# Altium footprint library Relay_THT.PcbLib: 117 footprints (part 5 of 8)
Each footprint in its own frame and in the unit in brackets; x right, y up, seen from the top. Pads: shape width x height; smd on the part's side, far side on the other; paste and mask are expansions set on the pad; w line width, h text height; cw(c..) or ccw(c..) is an arc to the next point about the centre after c.
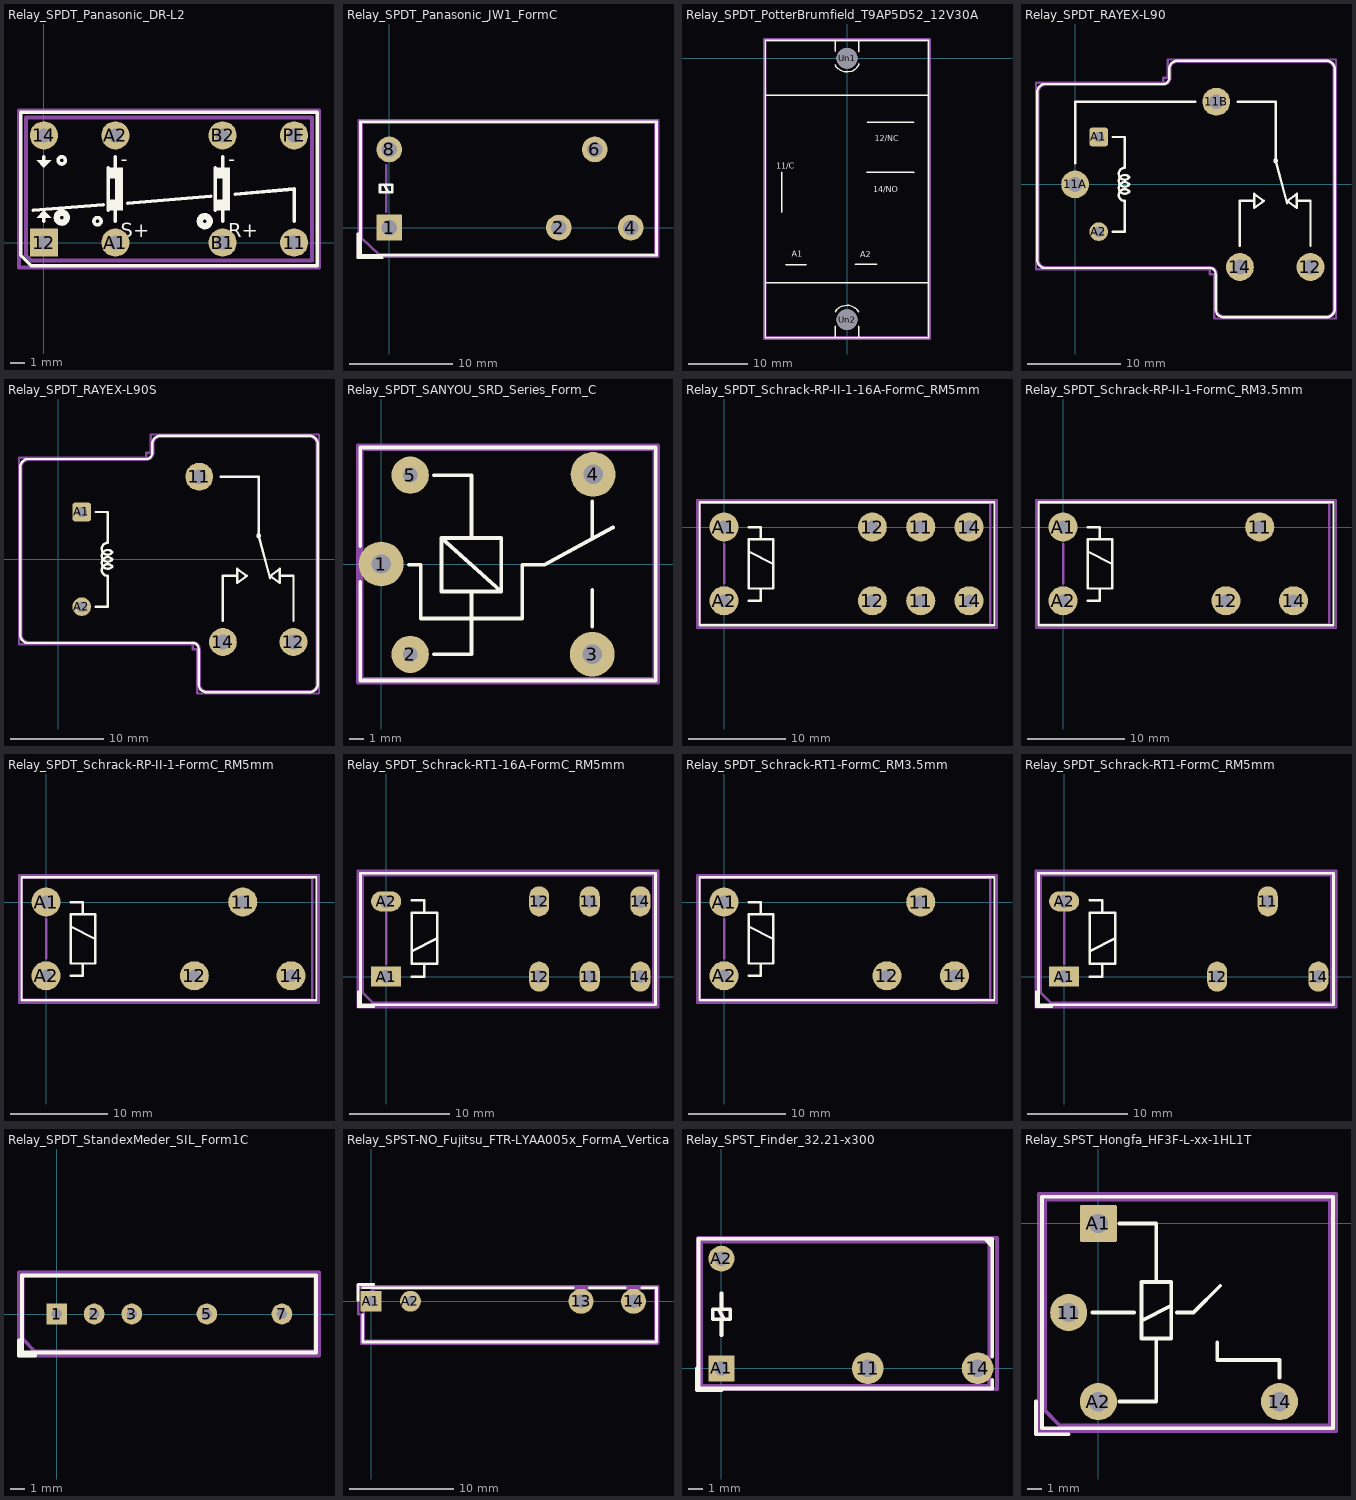
[diagram p4: the footprints below, top view; thin cyan lines are the x and y axes]

## Relay_SPDT_Panasonic_DR-L2 [mm]
pads (8):
  round 2 hole 1: 11(17.78,0) 14(0,7.62) A1(5.08,0) A2(5.08,7.62) B1(12.7,0) B2(12.7,7.62) PE(17.78,7.62)
  rect 2x2 hole 1: 12(0,0)
F.SilkS:
  circle w0.254: c11.43,1.524 r0.454
  circle w0.254: c11.43,1.524 r0.254
  circle w0.254: c3.81,1.524 r0.254
  circle w0.254: c1.27,1.778 r0.454
  circle w0.254: c1.27,1.778 r0.254
  circle w0.254: c1.27,5.842 r0.254
  region: 13.21,2.286 12.192,2.286 12.192,3.048 12.7,3.048 12.7,4.572 12.192,4.572 12.192,5.334 13.209,5.334
  region: 5.59,2.286 4.572,2.286 4.572,3.048 5.08,3.048 5.08,4.572 4.572,4.572 4.572,5.334 5.589,5.334
  region: 0.508,1.778 -0.508,1.778 0,2.286
  region: 0,5.334 -0.508,5.842 0.508,5.842
  lines w0.254: -0.762,2.286 4.216,2.692 ; 0,1.524 0,1.778 ; 0,5.842 0,6.096 ; 4.572,2.286 4.572,5.334 ; 5.08,1.524 5.08,2.286 ; 5.08,5.334 5.08,6.096 ; 5.944,2.794 11.862,3.302 ; 12.19,2.286 12.19,5.334 ; 12.698,1.524 12.698,2.286 ; 12.698,5.334 12.698,6.096 ; 13.589,3.429 17.78,3.81 17.78,1.524 ; -1.651,-0.89 -0.89,-1.651 19.431,-1.651 19.431,9.271 -1.651,9.271 -1.651,-0.89
  text "-" at 5.468,5.468 h1
  text "R+" at 13.088,0.396 h1
  text "S+" at 5.468,0.396 h1
  text "-" at 13.088,5.468 h1
F.Fab:
  lines w0.254: -1.27,-0.89 -0.89,-1.27 19.05,-1.27 19.05,8.89 -1.27,8.89 -1.27,-0.89
  text "'.Designator'" at 5.478,2.652 h1
F.CrtYd:
  lines w0.254: -1.77,-1.77 19.55,-1.77 19.55,9.39 -1.77,9.39 -1.77,-1.77

## Relay_SPDT_Panasonic_JW1_FormC [mm]
pads (5):
  rect 2.5x2.5 hole 1.5: 1(0,0)
  rrect100% 2.5x2.5 hole 1.5: 2(16.5,0) 4(23.5,0) 6(20,7.6) 8(0,7.6)
F.SilkS:
  lines w0.254: -3.04,-0.6 -3.04,-2.94 -0.7,-2.94 ; -0.5,4.15 -0.1,3.45 ; -2.8,-2.7 -2.8,10.3 26,10.3 26,-2.7 -2.8,-2.7 ; -0.9,3.45 -0.9,4.15 0.3,4.15 0.3,3.45 -0.9,3.45
F.Fab:
  lines w0.254: -3.04,-0.6 -3.04,-2.94 -0.7,-2.94 ; -0.3,1.55 -0.3,6.05 ; -2.7,-1 -2.7,10.2 25.9,10.2 25.9,-2.6 -1,-2.6 -2.7,-1
  text "'.Designator'" at 7.553,2.96 h1
F.CrtYd:
  lines w0.254: -2.95,-2.85 -2.95,10.45 26.15,10.45 26.15,-2.85 -2.95,-2.85
3D body "Relay_SPDT_Panasonic_JW1_FormC.step": height 20, standoff -3.1, extent -2.7,-2.6 25.9,10.2

## Relay_SPDT_PotterBrumfield_T9AP5D52_12V30A [mm]
pads (2):
  round 3.5 hole 3.5: Un1(0,0) Un2(0,-43.998)
F.SilkS:
  lines w0.254: -13.749,-37.749 13.749,-37.749 ; -13.749,-6.248 13.749,-6.248 ; -11.001,-25.898 -11.001,-19.223 ; -10.274,-34.724 -6.825,-34.724 ; -1.976,-47 -1.976,-45.098 ; -1.976,-42.675 -1.75,-42.324 -1.3,-41.948 -0.851,-41.725 0.076,-41.6 0.376,-41.6 0.8,-41.725 1.45,-42.05 1.826,-42.474 1.976,-42.675 ; -1.976,-1.1 -1.9,-1.374 -1.549,-1.725 -1.125,-2.024 -0.45,-2.248 0.201,-2.273 0.826,-2.174 1.275,-1.923 1.674,-1.524 1.951,-1.123 1.999,-0.95 ; -1.976,1.201 -1.976,3.002 ; 1.425,-34.699 5.001,-34.699 ; 1.951,-45.098 1.976,-46.975 ; 1.976,1.1 1.976,3.002 ; 3.325,-19.2 3.35,-19.2 11.25,-19.223 ; 3.424,-10.775 11.275,-10.749 ; -13.749,-47 13.749,-47 13.749,-21.999 13.749,3.002 -13.749,3.002 -13.749,-47
  text "14/NO" at 4.418,-22.52 h1
  text "12/NC" at 4.694,-13.995 h1
  text "A2" at 2.27,-33.449 h1
  text "A1" at -9.342,-33.398 h1
  text "11/C" at -11.881,-18.57 h1
F.Fab:
  lines w0.254: -13.7,-46.9 -13.6,-46.9 13.6,-46.9 13.6,2.9 -13.7,2.9 -13.7,-46.9
  text "'.Designator'" at -3.237,-22.671 h0.8
F.CrtYd:
  lines w0.254: -14,-47.25 14,-47.25 14,3.25 -14,3.25 -14,-47.25

## Relay_SPDT_RAYEX-L90 [mm]
pads (6):
  round 3 hole 1.6: 11A(0,0) 11B(15.2,8.9) 12(25.34,-8.9) 14(17.74,-8.9)
  rrect25% 2x2 hole 1.1: A1(2.54,5.1)
  round 2 hole 1.1: A2(2.54,-5.1)
F.SilkS:
  circle w0.254: c21.59,2.54 r0.127
  lines w0.254: 0,2.286 0,8.9 12.954,8.9 ; 4.064,-5.105 5.334,-5.105 5.334,-1.778 cw(c5.334,-1.143) 5.842,-0.762 cw(c5.334,-0.381) 5.842,0 cw(c5.334,0.381) 5.842,0.762 cw(c5.334,1.143) 5.334,1.778 5.334,5.105 4.064,5.105 ; 17.526,8.9 21.59,8.9 21.59,2.54 22.809,-2.032 ; 17.74,-6.604 17.74,-1.778 19.304,-1.778 ; 23.876,-1.778 25.34,-1.778 25.34,-6.604 ; -4.07,-8.14 -4.07,9.94 cw(c-3.2,9.94) -3.2,10.81 9.48,10.81 ccw(c9.48,11.46) 10.13,11.46 10.13,12.44 cw(c11,12.44) 11,13.31 27.08,13.31 cw(c27.08,12.44) 27.95,12.44 27.95,-13.44 cw(c27.08,-13.44) 27.08,-14.31 16,-14.31 cw(c16,-13.44) 15.13,-13.44 15.13,-9.66 ccw(c14.48,-9.66) 14.48,-9.01 -3.2,-9.01 cw(c-3.2,-8.14) -4.07,-8.14 ; 19.304,-2.54 19.304,-1.016 20.32,-1.778 19.304,-2.54 ; 22.86,-1.778 23.876,-1.016 23.876,-2.54 22.86,-1.778
F.Fab:
  lines w0.254: -3.96,-8.14 -3.96,9.94 cw(c-3.2,9.94) -3.2,10.7 9.48,10.7 ccw(c9.48,11.46) 10.24,11.46 10.24,12.44 cw(c11,12.44) 11,13.2 27.08,13.2 cw(c27.08,12.44) 27.84,12.44 27.84,-13.44 cw(c27.08,-13.44) 27.08,-14.2 16,-14.2 cw(c16,-13.44) 15.24,-13.44 15.24,-9.66 ccw(c14.48,-9.66) 14.48,-8.9 -3.2,-8.9 cw(c-3.2,-8.14) -3.96,-8.14
  text "'.Designator'" at 8.348,-0.84 h1
F.CrtYd:
  lines w0.254: -4.21,-9.15 -4.21,10.95 9.48,10.95 9.48,11.46 9.99,11.46 9.99,13.45 28.09,13.45 28.09,-14.45 14.99,-14.45 14.99,-9.66 14.48,-9.66 14.48,-9.15 -4.21,-9.15

## Relay_SPDT_RAYEX-L90S [mm]
pads (5):
  round 3 hole 1.6: 11(15.2,8.9) 12(25.34,-8.9) 14(17.74,-8.9)
  rrect25% 2x2 hole 1.1: A1(2.54,5.1)
  round 2 hole 1.1: A2(2.54,-5.1)
F.SilkS:
  circle w0.254: c21.59,2.54 r0.127
  lines w0.254: 4.064,-5.105 5.334,-5.105 5.334,-1.778 cw(c5.334,-1.143) 5.842,-0.762 cw(c5.334,-0.381) 5.842,0 cw(c5.334,0.381) 5.842,0.762 cw(c5.334,1.143) 5.334,1.778 5.334,5.105 4.064,5.105 ; 17.526,8.9 21.59,8.9 21.59,2.54 22.809,-2.032 ; 17.74,-6.604 17.74,-1.778 19.304,-1.778 ; 23.876,-1.778 25.34,-1.778 25.34,-6.604 ; -4.07,-8.14 ccw(c-3.2,-8.14) -3.2,-9.01 14.48,-9.01 cw(c14.48,-9.66) 15.13,-9.66 15.13,-13.44 ccw(c16,-13.44) 16,-14.31 27.08,-14.31 ccw(c27.08,-13.44) 27.95,-13.44 27.95,12.44 ccw(c27.08,12.44) 27.08,13.31 11,13.31 ccw(c11,12.44) 10.13,12.44 10.13,11.46 cw(c9.48,11.46) 9.48,10.81 -3.2,10.81 ccw(c-3.2,9.94) -4.07,9.94 -4.07,-8.14 ; 19.304,-2.54 20.32,-1.778 19.304,-1.016 19.304,-2.54 ; 22.86,-1.778 23.876,-2.54 23.876,-1.016 22.86,-1.778
F.Fab:
  lines w0.254: -3.96,-8.14 ccw(c-3.2,-8.14) -3.2,-8.9 14.48,-8.9 cw(c14.48,-9.66) 15.24,-9.66 15.24,-13.44 ccw(c16,-13.44) 16,-14.2 27.08,-14.2 ccw(c27.08,-13.44) 27.84,-13.44 27.84,12.44 ccw(c27.08,12.44) 27.08,13.2 11,13.2 ccw(c11,12.44) 10.24,12.44 10.24,11.46 cw(c9.48,11.46) 9.48,10.7 -3.2,10.7 ccw(c-3.2,9.94) -3.96,9.94 -3.96,-8.14
  text "'.Designator'" at 8.348,-0.84 h1
F.CrtYd:
  lines w0.254: -4.21,-9.15 14.48,-9.15 14.48,-9.66 14.99,-9.66 14.99,-14.45 28.09,-14.45 28.09,13.45 9.99,13.45 9.99,11.46 9.48,11.46 9.48,10.95 -4.21,10.95 -4.21,-9.15

## Relay_SPDT_SANYOU_SRD_Series_Form_C [mm]
pads (5):
  round 3 hole 1.3: 1(0,0) 3(14.15,-6.05) 4(14.2,6)
  round 2.5 hole 1: 2(1.95,-6.05) 5(1.95,5.95)
F.SilkS:
  lines w0.254: -1.4,-1.2 -1.4,-7.8 18.4,-7.8 18.4,7.8 -1.4,7.8 -1.4,1.2 ; 1.85,-0.05 2.65,-0.05 2.65,-3.65 9.45,-3.65 9.45,-0.05 10.95,-0.05 15.55,2.45 ; 3.55,-6.05 6.05,-6.05 6.05,-1.85 ; 3.55,5.95 6.05,5.95 6.05,1.75 ; 14.15,-4.2 14.15,-1.75 ; 14.15,1.7 14.15,4.2 ; 4.05,1.75 8.05,1.75 8.05,-1.85 ; 4.05,1.75 4.05,-1.85 8.05,-1.85 ; 4.05,1.75 8.05,-1.85
F.Fab:
  lines w0.254: -1.3,-7.7 -1.3,7.7 18.3,7.7 18.3,-7.7 -1.3,-7.7
  text "'.Designator'" at 3.053,-0.865 h1
  text "1" at -0.269,1.65 h1
F.CrtYd:
  lines w0.254: -1.55,-7.95 -1.55,7.95 18.55,7.95 18.55,-7.95 -1.55,-7.95
3D body "Relay_SPDT_SANYOU_SRD_Series_Form_C.step": height 15.6, standoff -3.4, extent -1.3,-7.7 18.3,7.7

## Relay_SPDT_Schrack-RP-II-1-16A-FormC_RM5mm [mm]
pads (8):
  round 3 hole 1.3: 11(20.32,-7.62) 11(20.32,0) 12(15.32,-7.62) 12(15.32,0) 14(25.32,-7.62) 14(25.32,0) A1(0,0) A2(0,-7.62)
F.SilkS:
  lines w0.254: 2.54,-7.62 3.81,-7.62 3.81,-6.35 ; 2.54,-2.54 5.08,-3.81 ; 2.54,0 3.81,0 3.81,-1.27 ; 3.81,-1.27 5.08,-1.27 5.08,-6.35 2.54,-6.35 2.54,-1.27 3.81,-1.27 ; -2.54,-10.16 27.94,-10.16 27.94,2.54 -2.54,2.54 -2.54,-10.16
F.Fab:
  lines w0.254: 0,-5.8 0,-1.8 ; -2.5,-10.1 27.5,-10.1 27.5,2.5 -2.5,2.5 -2.5,-10.1
  text "'.Designator'" at 8.018,-4.65 h1
F.CrtYd:
  lines w0.254: -2.8,-10.42 28.2,-10.42 28.2,2.78 -2.8,2.78 -2.8,-10.42

## Relay_SPDT_Schrack-RP-II-1-FormC_RM3.5mm [mm]
pads (5):
  round 3 hole 1.3: 11(20.32,0) 12(16.82,-7.62) 14(23.82,-7.62) A1(0,0) A2(0,-7.62)
F.SilkS:
  lines w0.254: 2.54,-7.62 3.81,-7.62 3.81,-6.35 ; 2.54,-2.54 5.08,-3.81 ; 2.54,0 3.81,0 3.81,-1.27 ; 3.81,-1.27 2.54,-1.27 2.54,-6.35 5.08,-6.35 5.08,-1.27 3.81,-1.27 ; -2.54,-10.16 -2.54,2.54 27.94,2.54 27.94,-10.16 -2.54,-10.16
F.Fab:
  lines w0.254: 0,-5.8 0,-1.8 ; -2.5,-10.1 -2.5,2.5 27.5,2.5 27.5,-10.1 -2.5,-10.1
  text "'.Designator'" at 8.018,-4.65 h1
F.CrtYd:
  lines w0.254: -2.8,-10.42 -2.8,2.78 28.2,2.78 28.2,-10.42 -2.8,-10.42

## Relay_SPDT_Schrack-RP-II-1-FormC_RM5mm [mm]
pads (5):
  round 3 hole 1.3: 11(20.32,0) 12(15.32,-7.62) 14(25.32,-7.62) A1(0,0) A2(0,-7.62)
F.SilkS:
  lines w0.254: 2.54,-7.62 3.81,-7.62 3.81,-6.35 ; 2.54,-2.54 5.08,-3.81 ; 2.54,0 3.81,0 3.81,-1.27 ; 3.81,-1.27 2.54,-1.27 2.54,-6.35 5.08,-6.35 5.08,-1.27 3.81,-1.27 ; -2.54,-10.16 -2.54,2.54 27.94,2.54 27.94,-10.16 -2.54,-10.16
F.Fab:
  lines w0.254: 0,-5.8 0,-1.8 ; -2.5,-10.1 -2.5,2.5 27.5,2.5 27.5,-10.1 -2.5,-10.1
  text "'.Designator'" at 8.018,-4.65 h1
F.CrtYd:
  lines w0.254: -2.8,-10.42 -2.8,2.78 28.2,2.78 28.2,-10.42 -2.8,-10.42

## Relay_SPDT_Schrack-RT1-16A-FormC_RM5mm [mm]
pads (8):
  rrect100% 2x3 hole 1.3: 11(20.3,0) 11(20.3,7.5) 12(15.26,0) 12(15.26,7.5) 14(25.34,0) 14(25.34,7.5)
  rect 3x2 hole 1.3: A1(0,0)
  rrect100% 3x2 hole 1.3: A2(0,7.5)
F.SilkS:
  lines w0.254: -2.75,-1.5 -2.75,-3 -1.25,-3 ; 2.54,0 3.81,0 3.81,1.27 ; 2.54,2.54 5.08,3.81 ; 2.54,7.62 3.81,7.62 3.81,6.35 ; 3.81,1.27 5.08,1.27 5.08,6.35 2.54,6.35 2.54,1.27 3.81,1.27 ; -2.55,-2.8 26.85,-2.8 26.85,10.3 -2.55,10.3 -2.55,-2.8
F.Fab:
  lines w0.254: 0,1.27 0,6.35 ; -2.35,-1.6 -1.35,-2.6 26.65,-2.6 26.65,10.1 -2.35,10.1 -2.35,-1.6
  text "'.Designator'" at 8.018,2.97 h1
F.CrtYd:
  lines w0.254: -2.8,-3.05 27.1,-3.05 27.1,10.55 -2.8,10.55 -2.8,-3.05

## Relay_SPDT_Schrack-RT1-FormC_RM3.5mm [mm]
pads (5):
  round 3 hole 1.3: 11(20.32,0) 12(16.82,-7.62) 14(23.82,-7.62) A1(0,0) A2(0,-7.62)
F.SilkS:
  lines w0.254: 2.54,-7.62 3.81,-7.62 3.81,-6.35 ; 2.54,-2.54 5.08,-3.81 ; 2.54,0 3.81,0 3.81,-1.27 ; 3.81,-1.27 5.08,-1.27 5.08,-6.35 2.54,-6.35 2.54,-1.27 3.81,-1.27 ; -2.54,-10.16 27.94,-10.16 27.94,2.54 -2.54,2.54 -2.54,-10.16
F.Fab:
  lines w0.254: 0,-5.8 0,-1.8 ; -2.5,-10.1 27.5,-10.1 27.5,2.5 -2.5,2.5 -2.5,-10.1
  text "'.Designator'" at 8.018,-4.65 h1
F.CrtYd:
  lines w0.254: -2.8,-10.42 28.2,-10.42 28.2,2.78 -2.8,2.78 -2.8,-10.42

## Relay_SPDT_Schrack-RT1-FormC_RM5mm [mm]
pads (5):
  rrect100% 2x3 hole 1.3: 11(20.3,7.5) 12(15.26,0) 14(25.34,0)
  rect 3x2 hole 1.3: A1(0,0)
  rrect100% 3x2 hole 1.3: A2(0,7.5)
F.SilkS:
  lines w0.254: -2.75,-1.5 -2.75,-3 -1.25,-3 ; 2.54,0 3.81,0 3.81,1.27 ; 2.54,2.54 5.08,3.81 ; 2.54,7.62 3.81,7.62 3.81,6.35 ; 3.81,1.27 2.54,1.27 2.54,6.35 5.08,6.35 5.08,1.27 3.81,1.27 ; -2.55,-2.8 -2.55,10.3 26.85,10.3 26.85,-2.8 -2.55,-2.8
F.Fab:
  lines w0.254: 0,1.27 0,6.35 ; -2.35,-1.6 -2.35,10.1 26.65,10.1 26.65,-2.6 -1.35,-2.6 -2.35,-1.6
  text "'.Designator'" at 8.018,2.97 h1
F.CrtYd:
  lines w0.254: -2.8,-3.05 -2.8,10.55 27.1,10.55 27.1,-3.05 -2.8,-3.05
3D body "Relay_SPDT_Schrack-RT1-FormC_RM5mm.step": height 15.7, standoff -5.3, extent -2.35,-2.6 26.65,10.1

## Relay_SPDT_StandexMeder_SIL_Form1C [mm]
pads (5):
  rect 1.4x1.4 hole 0.7: 1(0,0)
  round 1.4 hole 0.7: 2(2.54,0) 3(5.08,0) 5(10.16,0) 7(15.24,0)
F.SilkS:
  lines w0.254: -2.55,-1.8 -2.55,-2.8 -1.45,-2.8 ; -2.35,-2.6 -2.35,2.6 17.55,2.6 17.55,-2.6 -2.35,-2.6
F.Fab:
  lines w0.254: -2.3,-1.667 -2.3,2.583 17.5,2.583 17.5,-2.517 -1.5,-2.517 -2.3,-1.667
  text "'.Designator'" at 3.703,-0.84 h1
F.CrtYd:
  lines w0.254: -2.55,-2.8 -2.55,2.8 17.75,2.8 17.75,-2.8 -2.55,-2.8
3D body "Relay_SPDT_StandexMeder_SIL_Form1C.step": height 8.2, standoff -3.5, extent -2.28,-2.54 17.52,2.54

## Relay_SPST-NO_Fujitsu_FTR-LYAA005x_FormA_Vertical [mm]
pads (4):
  round 2.4 hole 1.3: 13(20.16,0) 14(25.2,0)
  rect 2x2 hole 1: A1(0,0)
  round 2 hole 1: A2(3.78,0)
F.SilkS:
  lines w0.254: -1.26,0.11 -1.26,1.61 0.24,1.61 ; -0.81,-1.3 -0.81,-3.91 27.41,-3.91 27.41,1.31 26,1.31 ; -0.81,1.31 19.4,1.31 ; 20.94,1.31 24.42,1.31
F.Fab:
  lines w0.254: -0.7,-3.8 27.3,-3.8 27.3,1.2 0.3,1.2 -0.7,0.2 -0.7,-3.8
  text "'.Designator'" at 9.253,-2.14 h1
F.CrtYd:
  lines w0.254: -1.25,-1.25 -0.95,-1.25 -0.95,-4.05 27.55,-4.05 27.55,1.45 -0.95,1.45 -0.95,1.25 -1.25,1.25 -1.25,-1.25

## Relay_SPST_Finder_32.21-x300 [mm]
pads (4):
  round 2.2 hole 1.2: 11(10.16,0) 14(17.78,0)
  rect 1.8x1.8 hole 1: A1(0,0)
  round 1.8 hole 1: A2(0,7.62)
F.SilkS:
  lines w0.254: -1.7,0 -1.7,-1.5 0,-1.5 ; -0.2,4.1 0.2,3.4 ; 0,2.3 0,3.4 ; 0,4.1 0,5.2 ; 18.279,8.996 18.779,8.496 ; 18.379,8.996 18.779,8.596 ; 18.479,8.996 18.779,8.696 ; 18.579,8.996 18.779,8.796 ; 18.679,8.996 18.779,8.896 ; 18.8,-0.8 18.8,-1.4 -1.6,-1.4 -1.6,9 18.8,9 18.8,0.796 ; -0.6,3.4 -0.6,4.1 0.6,4.1 0.6,3.4 -0.6,3.4
F.Fab:
  lines w0.254: 0,2.3 0,5.2 ; -1.4,-1.2 -1.4,8.8 18.6,8.8 18.6,-1.2 -1.4,-1.2
  text "'.Designator'" at 6.153,3.26 h1
F.CrtYd:
  lines w0.254: -1.65,-1.45 -1.65,9.05 19.13,9.05 19.13,-1.45 -1.65,-1.45
3D body "Relay_SPST_Finder_32.21-x300.step": height 10.7, standoff -3, extent -1.4,-1.19 18.6,8.81

## Relay_SPST_Hongfa_HF3F-L-xx-1HL1T [mm]
pads (4):
  round 2.5 hole 1.3: 11(-2,-6) 14(12.2,-12) A2(0,-12)
  rrect10% 2.5x2.5 hole 1.3: A1(0,0)
F.SilkS:
  lines w0.254: -4.2,-12 -4.2,-14.2 -2,-14.2 ; -0.4,-6 2.4,-6 ; 1.4,-12 3.9,-12 3.9,-7.75 ; 1.4,0 3.9,0 3.9,-3.95 ; 2.9,-6.55 4.9,-5.55 ; 5.3,-6 6.4,-6 8.2,-4.2 ; 8,-8 8,-9.2 12.2,-9.2 12.2,-10.4 ; -3.8,-13.8 -3.8,1.8 15.8,1.8 15.8,-13.8 -3.8,-13.8 ; 2.9,-7.75 2.9,-3.95 4.9,-3.95 4.9,-7.75 2.9,-7.75
F.Fab:
  lines w0.254: -3.6,-12.6 -3.6,1.6 15.6,1.6 15.6,-13.6 -2.6,-13.6 -3.6,-12.6
  text "'.Designator'" at 2.153,-6.84 h1
F.CrtYd:
  lines w0.254: -4,-14 -4,2 16,2 16,-14 -4,-14